# Altium schematic symbol library SCH - POWER - LINEAR VREG - TI UCC3810_N_16.SchLib: 1 symbol
Pins are listed as number, name and electrical type; pins without a type are passive.

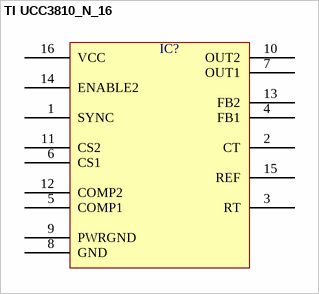
[diagram p0: symbol TI UCC3810_N_16]

## TI UCC3810_N_16
designator IC?  (value not drawn)
pins: 1 SYNC, 2 CT, 3 RT, 4 FB1, 5 COMP1, 6 CS1, 7 OUT1, 8 GND, 9 PWRGND, 10 OUT2, 11 CS2, 12 COMP2, 13 FB2, 14 ENABLE2, 15 REF, 16 VCC